# Altium integrated library National Semiconductor MiscPower.IntLib: 1552 symbols (part 12 of 43)
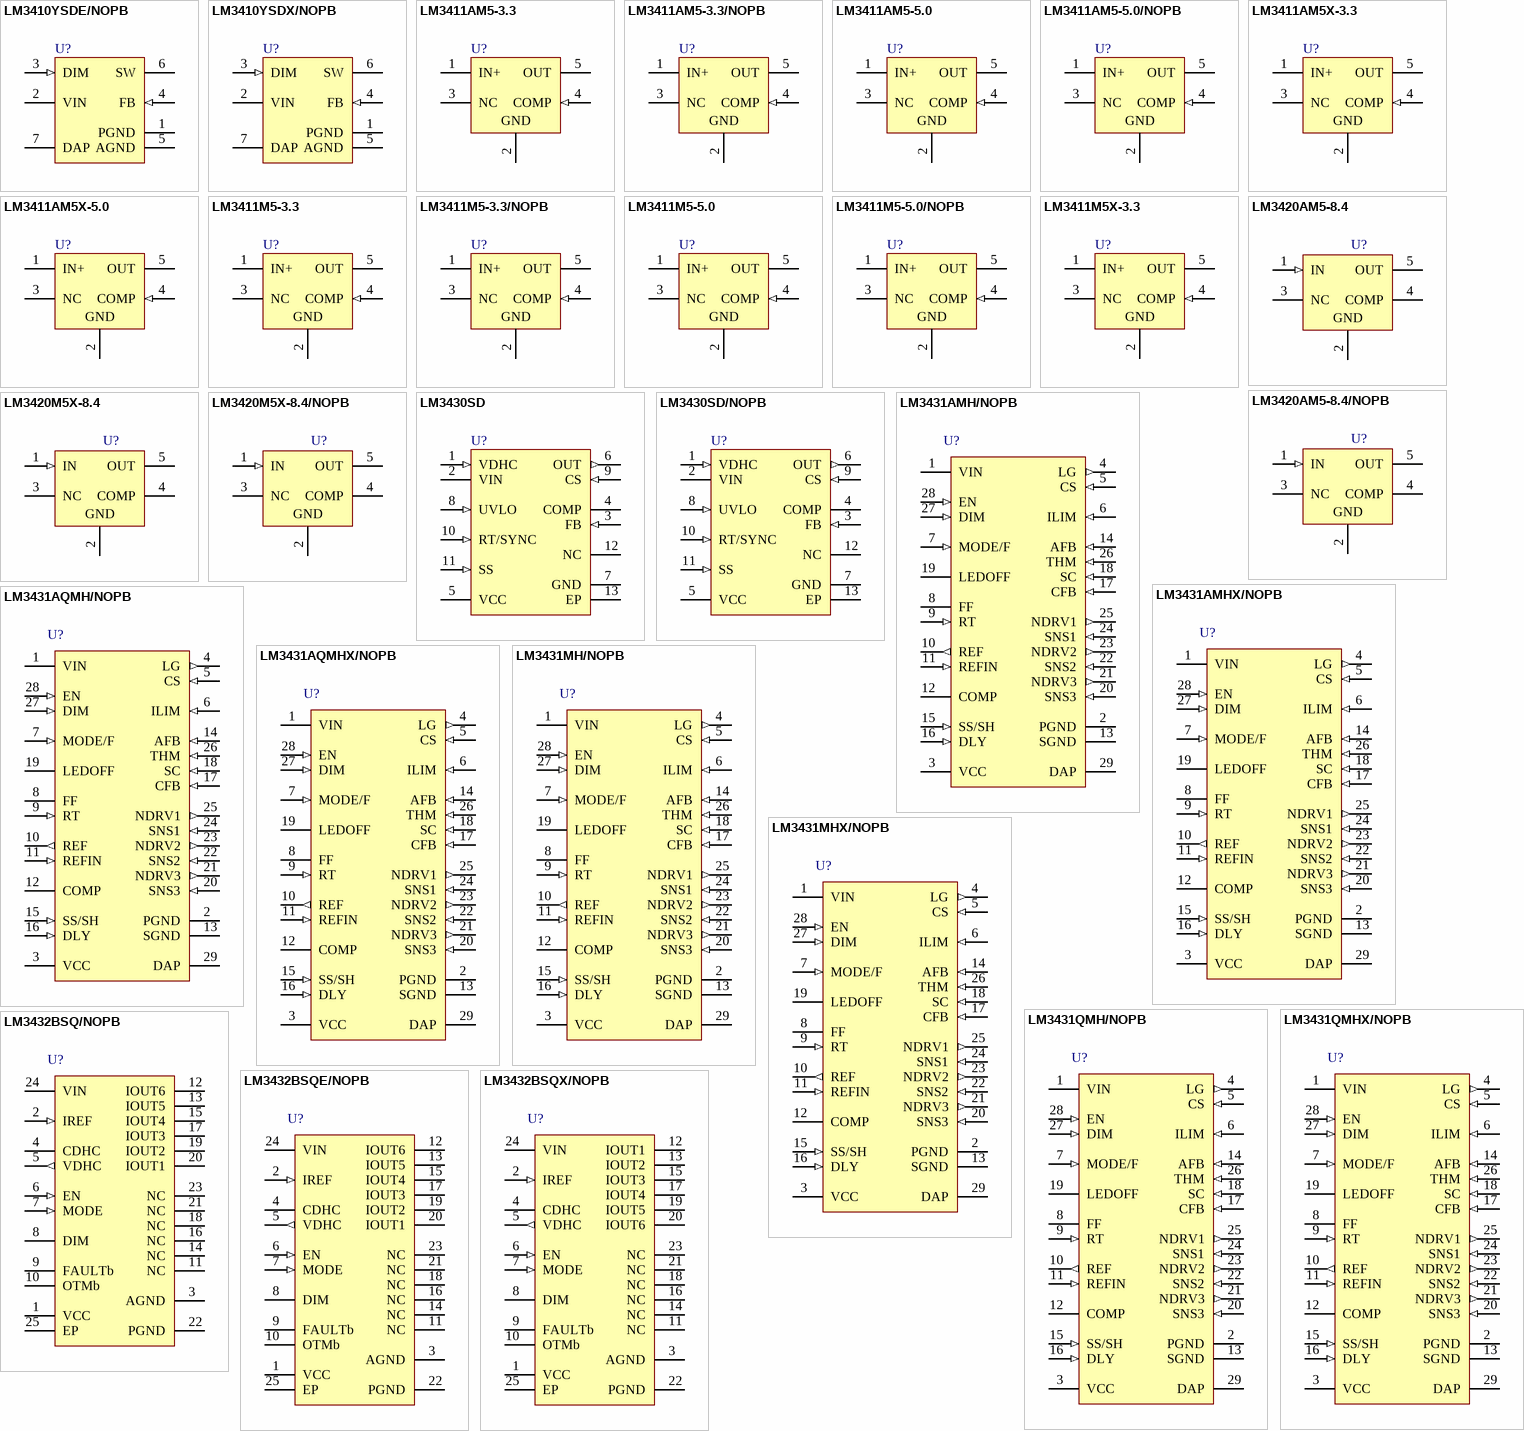
[diagram p68: symbols LM3410YSDE/NOPB to LM3432BSQX/NOPB]

## LM3420AM5-8.4/NOPB
designator U?
Lithium-Ion Battery Charge Controller, 5-pin SOT-23, Pb-Free; PartNumber: LM3420AM5-8.4/NOPB; Manufacturer: National Semiconductor; PackageTopMarking: D03A*XTT; PowerWise: N; CompType: MiscPower; High-Reliability: Y; DatasheetVersion: Jul-2000; PackageVersion: revD, Aug-2008; PackageReference: MF05A; PackageDescription: Molded SOT-23, .115 x .063 x .040 in Body, 5 Lead, .0375 in Pitch; RoHS: Y; PinCount: 5; ComponentLink1Description: Manufacturer URL; ComponentLink1URL: http://www.national.com/; ComponentLink2Description: LM3420 Datasheet; ComponentLink2URL: http://www.national.com/ds/LM/LM3420.pdf; ComponentLink3Description: LM3420 Web Page; ComponentLink3URL: http://www.national.com/pf/LM/LM3420.html; ComponentLink4Description: MF05A Package Page; ComponentLink4URL: http://www.national.com/packaging/folders/mf05a.html
footprint MF05A_N (SOT23, 5-Leads, Body 2.9x1.6mm, Pitch 0.95mm, Lead Span 2.8mm, IPC Medium Density)
footprint MF05A_L (SOT23, 5-Leads, Body 2.9x1.6mm, Pitch 0.95mm, Lead Span 2.8mm, IPC High Density)
footprint MF05A_M (SOT23, 5-Leads, Body 2.9x1.6mm, Pitch 0.95mm, Lead Span 2.8mm, IPC Low Density)
pins: 1 IN (in), 2 GND (power), 3 NC, 4 COMP, 5 OUT (oe)

## LM3420M5X-8.4
designator U?
Lithium-Ion Battery Charge Controller, 5-pin SOT-23; PartNumber: LM3420M5X-8.4; Manufacturer: National Semiconductor; PackageTopMarking: D03B*XTT; PowerWise: N; CompType: MiscPower; High-Reliability: Y; DatasheetVersion: Jul-2000; PackageVersion: revD, Aug-2008; PackageReference: MF05A; PackageDescription: Molded SOT-23, .115 x .063 x .040 in Body, 5 Lead, .0375 in Pitch; RoHS: N; PinCount: 5; ComponentLink1Description: Manufacturer URL; ComponentLink1URL: http://www.national.com/; ComponentLink2Description: LM3420 Datasheet; ComponentLink2URL: http://www.national.com/ds/LM/LM3420.pdf; ComponentLink3Description: LM3420 Web Page; ComponentLink3URL: http://www.national.com/pf/LM/LM3420.html; ComponentLink4Description: MF05A Package Page; ComponentLink4URL: http://www.national.com/packaging/folders/mf05a.html
footprint MF05A_N (SOT23, 5-Leads, Body 2.9x1.6mm, Pitch 0.95mm, Lead Span 2.8mm, IPC Medium Density)
footprint MF05A_L (SOT23, 5-Leads, Body 2.9x1.6mm, Pitch 0.95mm, Lead Span 2.8mm, IPC High Density)
footprint MF05A_M (SOT23, 5-Leads, Body 2.9x1.6mm, Pitch 0.95mm, Lead Span 2.8mm, IPC Low Density)
pins: 1 IN (in), 2 GND (power), 3 NC, 4 COMP, 5 OUT (oe)

## LM3420M5X-8.4/NOPB
designator U?
Lithium-Ion Battery Charge Controller, 5-pin SOT-23, Pb-Free; PartNumber: LM3420M5X-8.4/NOPB; Manufacturer: National Semiconductor; PackageTopMarking: D03B*XTT; PowerWise: N; CompType: MiscPower; High-Reliability: Y; DatasheetVersion: Jul-2000; PackageVersion: revD, Aug-2008; PackageReference: MF05A; PackageDescription: Molded SOT-23, .115 x .063 x .040 in Body, 5 Lead, .0375 in Pitch; RoHS: Y; PinCount: 5; ComponentLink1Description: Manufacturer URL; ComponentLink1URL: http://www.national.com/; ComponentLink2Description: LM3420 Datasheet; ComponentLink2URL: http://www.national.com/ds/LM/LM3420.pdf; ComponentLink3Description: LM3420 Web Page; ComponentLink3URL: http://www.national.com/pf/LM/LM3420.html; ComponentLink4Description: MF05A Package Page; ComponentLink4URL: http://www.national.com/packaging/folders/mf05a.html
footprint MF05A_N (SOT23, 5-Leads, Body 2.9x1.6mm, Pitch 0.95mm, Lead Span 2.8mm, IPC Medium Density)
footprint MF05A_L (SOT23, 5-Leads, Body 2.9x1.6mm, Pitch 0.95mm, Lead Span 2.8mm, IPC High Density)
footprint MF05A_M (SOT23, 5-Leads, Body 2.9x1.6mm, Pitch 0.95mm, Lead Span 2.8mm, IPC Low Density)
pins: 1 IN (in), 2 GND (power), 3 NC, 4 COMP, 5 OUT (oe)

## LM3430SD
designator U?
Boost Controller for LED Backlighting, 12-pin LLP; PartNumber: LM3430SD; Manufacturer: National Semiconductor; PackageTopMarking: ZXYTT*L3430; PowerWise: Y; CompType: MiscPower; DatasheetVersion: Jan-2007; PackageVersion: revB, Jul-2008; PackageReference: SDF12A; PackageDescription: LLP, Plastic, Dual, 3 x 3 x 0.8mm Body, 12 Lead, 0.4mm Pitch, No Pullback; RoHS: N; PinCount: 12; High-Reliability: Y; ComponentLink1Description: Manufacturer URL; ComponentLink1URL: http://www.national.com/; ComponentLink2Description: LM3430 Datasheet; ComponentLink2URL: http://www.national.com/ds/LM/LM3430.pdf; ComponentLink3Description: LM3430 Web Page; ComponentLink3URL: http://www.national.com/pf/LM/LM3430.html; ComponentLink4Description: SDF12A Package Page; ComponentLink4URL: http://www.national.com/packaging/folders/sdf12a.html
footprint SDF12A (SON, 12-Leads, Body 3x3mm, Pitch 0.4mm, NSC Recommended)
pins: 1 VDHC (in), 2 VIN (power), 3 FB (in), 4 COMP, 5 VCC (power), 6 OUT (out), 7 GND (power), 8 UVLO (in), 9 CS (in), 10 RT/SYNC (in), 11 SS (in), 12 NC, 13 EP (power)

## LM3430SD/NOPB
designator U?
Boost Controller for LED Backlighting, 12-pin LLP, Pb-Free; PartNumber: LM3430SD/NOPB; Manufacturer: National Semiconductor; PackageTopMarking: ZXYTT*L3430; PowerWise: Y; CompType: MiscPower; DatasheetVersion: Jan-2007; PackageVersion: revB, Jul-2008; PackageReference: SDF12A; PackageDescription: LLP, Plastic, Dual, 3 x 3 x 0.8mm Body, 12 Lead, 0.4mm Pitch, No Pullback; RoHS: Y; PinCount: 12; High-Reliability: Y; ComponentLink1Description: Manufacturer URL; ComponentLink1URL: http://www.national.com/; ComponentLink2Description: LM3430 Datasheet; ComponentLink2URL: http://www.national.com/ds/LM/LM3430.pdf; ComponentLink3Description: LM3430 Web Page; ComponentLink3URL: http://www.national.com/pf/LM/LM3430.html; ComponentLink4Description: SDF12A Package Page; ComponentLink4URL: http://www.national.com/packaging/folders/sdf12a.html
footprint SDF12A (SON, 12-Leads, Body 3x3mm, Pitch 0.4mm, NSC Recommended)
pins: 1 VDHC (in), 2 VIN (power), 3 FB (in), 4 COMP, 5 VCC (power), 6 OUT (out), 7 GND (power), 8 UVLO (in), 9 CS (in), 10 RT/SYNC (in), 11 SS (in), 12 NC, 13 EP (power)

## LM3431AMH/NOPB
designator U?
3-Channel Constant Current LED Driver with Integrated Boost Controller, 28-pin TSSOP-EP, Pb-Free; PartNumber: LM3431AMH/NOPB; Manufacturer: National Semiconductor; PackageTopMarking: NSUZXYTTE#*LM3431AMH; PowerWise: Y; CompType: MiscPower; DatasheetVersion: Mar-2009; PackageVersion: revD, Oct-2003; PackageReference: MXA28A; PackageDescription: Molded TSSOP, Jedec, 9.7 x 4.4 x 0.9mm Body, 28 Lead, 0.65mm Pitch, Exposed Pad; RoHS: Y; PinCount: 28; High-Reliability: Y; Code_JEDEC: MO-153-AET; ComponentLink1Description: Manufacturer URL; ComponentLink1URL: http://www.national.com/; ComponentLink2Description: LM3431 Datasheet; ComponentLink2URL: http://www.national.com/ds/LM/LM3431.pdf; ComponentLink3Description: LM3431 Web Page; ComponentLink3URL: http://www.national.com/pf/LM/LM3431.html; ComponentLink4Description: MXA28A Package Page; ComponentLink4URL: http://www.national.com/packaging/folders/mxa28a.html
footprint MXA28A_N (TSOP, 28-Leads, Body 9.7x4.4mm, Pitch 0.65mm, Thermal Pad, IPC Medium Density)
footprint MXA28A_L (TSOP, 28-Leads, Body 9.7x4.4mm, Pitch 0.65mm, Thermal Pad, IPC High Density)
footprint MXA28A_M (TSOP, 28-Leads, Body 9.7x4.4mm, Pitch 0.65mm, Thermal Pad, IPC Low Density)
pins: 1 VIN (power), 2 PGND (power), 3 VCC (power), 4 LG (out), 5 CS (in), 6 ILIM (in), 7 MODE/F (in), 8 FF, 9 RT (in), 10 REF (out), 11 REFIN (in), 12 COMP, 13 SGND (power), 14 AFB (in), 15 SS/SH (in), 16 DLY (in), 17 CFB (in), 18 SC (in), 19 LEDOFF, 20 SNS3 (in), 21 NDRV3 (out), 22 SNS2 (in), 23 NDRV2 (out), 24 SNS1 (in), 25 NDRV1 (out), 26 THM (in), 27 DIM (in), 28 EN (in), 29 DAP (power)

## LM3431AMHX/NOPB
designator U?
3-Channel Constant Current LED Driver with Integrated Boost Controller, 28-pin TSSOP-EP, Pb-Free; PartNumber: LM3431AMHX/NOPB; Manufacturer: National Semiconductor; PackageTopMarking: NSUZXYTTE#*LM3431AMH; PowerWise: Y; CompType: MiscPower; DatasheetVersion: Jan-2008; PackageVersion: revD, Oct-2003; PackageReference: MXA28A; PackageDescription: Molded TSSOP, Jedec, 9.7 x 4.4 x 0.9mm Body, 28 Lead, 0.65mm Pitch, Exposed Pad; RoHS: Y; PinCount: 28; High-Reliability: Y; Code_JEDEC: MO-153-AET; ComponentLink1Description: Manufacturer URL; ComponentLink1URL: http://www.national.com/; ComponentLink2Description: LM3431 Datasheet; ComponentLink2URL: http://www.national.com/ds/LM/LM3431.pdf; ComponentLink3Description: LM3431 Web Page; ComponentLink3URL: http://www.national.com/pf/LM/LM3431.html; ComponentLink4Description: MXA28A Package Page; ComponentLink4URL: http://www.national.com/packaging/folders/mxa28a.html
footprint MXA28A_N (TSOP, 28-Leads, Body 9.7x4.4mm, Pitch 0.65mm, Thermal Pad, IPC Medium Density)
footprint MXA28A_L (TSOP, 28-Leads, Body 9.7x4.4mm, Pitch 0.65mm, Thermal Pad, IPC High Density)
footprint MXA28A_M (TSOP, 28-Leads, Body 9.7x4.4mm, Pitch 0.65mm, Thermal Pad, IPC Low Density)
pins: 1 VIN (power), 2 PGND (power), 3 VCC (power), 4 LG (out), 5 CS (in), 6 ILIM (in), 7 MODE/F (in), 8 FF, 9 RT (in), 10 REF (out), 11 REFIN (in), 12 COMP, 13 SGND (power), 14 AFB (in), 15 SS/SH (in), 16 DLY (in), 17 CFB (in), 18 SC (in), 19 LEDOFF, 20 SNS3 (in), 21 NDRV3 (out), 22 SNS2 (in), 23 NDRV2 (out), 24 SNS1 (in), 25 NDRV1 (out), 26 THM (in), 27 DIM (in), 28 EN (in), 29 DAP (power)

## LM3431AQMH/NOPB
designator U?
3-Channel Constant Current LED Driver with Integrated Boost Controller, 28-pin TSSOP-EP, Pb-Free; PartNumber: LM3431AQMH/NOPB; Manufacturer: National Semiconductor; PackageTopMarking: NSUZXYTTE#*LM3431*AQMH; PowerWise: N; CompType: MiscPower; High-Reliability: Y; DatasheetVersion: Mar-2009; PackageVersion: revD, Oct-2003; PackageReference: MXA28A; PackageDescription: Molded TSSOP, Jedec, 9.7 x 4.4 x 0.9mm Body, 28 Lead, 0.65mm Pitch, Exposed Pad; RoHS: Y; PinCount: 28; Code_JEDEC: MO-153-AET; ComponentLink1Description: Manufacturer URL; ComponentLink1URL: http://www.national.com/; ComponentLink2Description: LM3431 Datasheet; ComponentLink2URL: http://www.national.com/ds/LM/LM3431.pdf; ComponentLink3Description: LM3431 Web Page; ComponentLink3URL: http://www.national.com/pf/LM/LM3431.html; ComponentLink4Description: MXA28A Package Page; ComponentLink4URL: http://www.national.com/packaging/folders/mxa28a.html
footprint MXA28A_N (TSOP, 28-Leads, Body 9.7x4.4mm, Pitch 0.65mm, Thermal Pad, IPC Medium Density)
footprint MXA28A_L (TSOP, 28-Leads, Body 9.7x4.4mm, Pitch 0.65mm, Thermal Pad, IPC High Density)
footprint MXA28A_M (TSOP, 28-Leads, Body 9.7x4.4mm, Pitch 0.65mm, Thermal Pad, IPC Low Density)
pins: 1 VIN (power), 2 PGND (power), 3 VCC (power), 4 LG (out), 5 CS (in), 6 ILIM (in), 7 MODE/F (in), 8 FF, 9 RT (in), 10 REF (out), 11 REFIN (in), 12 COMP, 13 SGND (power), 14 AFB (in), 15 SS/SH (in), 16 DLY (in), 17 CFB (in), 18 SC (in), 19 LEDOFF, 20 SNS3 (in), 21 NDRV3 (out), 22 SNS2 (in), 23 NDRV2 (out), 24 SNS1 (in), 25 NDRV1 (out), 26 THM (in), 27 DIM (in), 28 EN (in), 29 DAP (power)

## LM3431AQMHX/NOPB
designator U?
3-Channel Constant Current LED Driver with Integrated Boost Controller, 28-pin TSSOP-EP, Pb-Free; PartNumber: LM3431AQMHX/NOPB; Manufacturer: National Semiconductor; PackageTopMarking: NSUZXYTTE#*LM3431*AQMH; PowerWise: N; CompType: MiscPower; High-Reliability: Y; DatasheetVersion: Mar-2009; PackageVersion: revD, Oct-2003; PackageReference: MXA28A; PackageDescription: Molded TSSOP, Jedec, 9.7 x 4.4 x 0.9mm Body, 28 Lead, 0.65mm Pitch, Exposed Pad; RoHS: Y; PinCount: 28; Code_JEDEC: MO-153-AET; ComponentLink1Description: Manufacturer URL; ComponentLink1URL: http://www.national.com/; ComponentLink2Description: LM3431 Datasheet; ComponentLink2URL: http://www.national.com/ds/LM/LM3431.pdf; ComponentLink3Description: LM3431 Web Page; ComponentLink3URL: http://www.national.com/pf/LM/LM3431.html; ComponentLink4Description: MXA28A Package Page; ComponentLink4URL: http://www.national.com/packaging/folders/mxa28a.html
footprint MXA28A_N (TSOP, 28-Leads, Body 9.7x4.4mm, Pitch 0.65mm, Thermal Pad, IPC Medium Density)
footprint MXA28A_L (TSOP, 28-Leads, Body 9.7x4.4mm, Pitch 0.65mm, Thermal Pad, IPC High Density)
footprint MXA28A_M (TSOP, 28-Leads, Body 9.7x4.4mm, Pitch 0.65mm, Thermal Pad, IPC Low Density)
pins: 1 VIN (power), 2 PGND (power), 3 VCC (power), 4 LG (out), 5 CS (in), 6 ILIM (in), 7 MODE/F (in), 8 FF, 9 RT (in), 10 REF (out), 11 REFIN (in), 12 COMP, 13 SGND (power), 14 AFB (in), 15 SS/SH (in), 16 DLY (in), 17 CFB (in), 18 SC (in), 19 LEDOFF, 20 SNS3 (in), 21 NDRV3 (out), 22 SNS2 (in), 23 NDRV2 (out), 24 SNS1 (in), 25 NDRV1 (out), 26 THM (in), 27 DIM (in), 28 EN (in), 29 DAP (power)

## LM3431MH/NOPB
designator U?
3-Channel Constant Current LED Driver with Integrated Boost Controller, 28-pin TSSOP-EP, Pb-Free; PartNumber: LM3431MH/NOPB; Manufacturer: National Semiconductor; PackageTopMarking: NSUZXYTTE#*LM3431MH; PowerWise: Y; CompType: MiscPower; DatasheetVersion: Jan-2008; PackageVersion: revD, Oct-2003; PackageReference: MXA28A; PackageDescription: Molded TSSOP, Jedec, 9.7 x 4.4 x 0.9mm Body, 28 Lead, 0.65mm Pitch, Exposed Pad; RoHS: Y; PinCount: 28; High-Reliability: Y; Code_JEDEC: MO-153-AET; ComponentLink1Description: Manufacturer URL; ComponentLink1URL: http://www.national.com/; ComponentLink2Description: LM3431 Datasheet; ComponentLink2URL: http://www.national.com/ds/LM/LM3431.pdf; ComponentLink3Description: LM3431 Web Page; ComponentLink3URL: http://www.national.com/pf/LM/LM3431.html; ComponentLink4Description: MXA28A Package Page; ComponentLink4URL: http://www.national.com/packaging/folders/mxa28a.html
footprint MXA28A_N (TSOP, 28-Leads, Body 9.7x4.4mm, Pitch 0.65mm, Thermal Pad, IPC Medium Density)
footprint MXA28A_L (TSOP, 28-Leads, Body 9.7x4.4mm, Pitch 0.65mm, Thermal Pad, IPC High Density)
footprint MXA28A_M (TSOP, 28-Leads, Body 9.7x4.4mm, Pitch 0.65mm, Thermal Pad, IPC Low Density)
pins: 1 VIN (power), 2 PGND (power), 3 VCC (power), 4 LG (out), 5 CS (in), 6 ILIM (in), 7 MODE/F (in), 8 FF, 9 RT (in), 10 REF (out), 11 REFIN (in), 12 COMP, 13 SGND (power), 14 AFB (in), 15 SS/SH (in), 16 DLY (in), 17 CFB (in), 18 SC (in), 19 LEDOFF, 20 SNS3 (in), 21 NDRV3 (out), 22 SNS2 (in), 23 NDRV2 (out), 24 SNS1 (in), 25 NDRV1 (out), 26 THM (in), 27 DIM (in), 28 EN (in), 29 DAP (power)

## LM3431MHX/NOPB
designator U?
3-Channel Constant Current LED Driver with Integrated Boost Controller, 28-pin TSSOP-EP, Pb-Free; PartNumber: LM3431MHX/NOPB; Manufacturer: National Semiconductor; PackageTopMarking: NSUZXYTTE#*LM3431MH; PowerWise: Y; CompType: MiscPower; DatasheetVersion: Jan-2008; PackageVersion: revD, Oct-2003; PackageReference: MXA28A; PackageDescription: Molded TSSOP, Jedec, 9.7 x 4.4 x 0.9mm Body, 28 Lead, 0.65mm Pitch, Exposed Pad; RoHS: Y; PinCount: 28; High-Reliability: Y; Code_JEDEC: MO-153-AET; ComponentLink1Description: Manufacturer URL; ComponentLink1URL: http://www.national.com/; ComponentLink2Description: LM3431 Datasheet; ComponentLink2URL: http://www.national.com/ds/LM/LM3431.pdf; ComponentLink3Description: LM3431 Web Page; ComponentLink3URL: http://www.national.com/pf/LM/LM3431.html; ComponentLink4Description: MXA28A Package Page; ComponentLink4URL: http://www.national.com/packaging/folders/mxa28a.html
footprint MXA28A_N (TSOP, 28-Leads, Body 9.7x4.4mm, Pitch 0.65mm, Thermal Pad, IPC Medium Density)
footprint MXA28A_L (TSOP, 28-Leads, Body 9.7x4.4mm, Pitch 0.65mm, Thermal Pad, IPC High Density)
footprint MXA28A_M (TSOP, 28-Leads, Body 9.7x4.4mm, Pitch 0.65mm, Thermal Pad, IPC Low Density)
pins: 1 VIN (power), 2 PGND (power), 3 VCC (power), 4 LG (out), 5 CS (in), 6 ILIM (in), 7 MODE/F (in), 8 FF, 9 RT (in), 10 REF (out), 11 REFIN (in), 12 COMP, 13 SGND (power), 14 AFB (in), 15 SS/SH (in), 16 DLY (in), 17 CFB (in), 18 SC (in), 19 LEDOFF, 20 SNS3 (in), 21 NDRV3 (out), 22 SNS2 (in), 23 NDRV2 (out), 24 SNS1 (in), 25 NDRV1 (out), 26 THM (in), 27 DIM (in), 28 EN (in), 29 DAP (power)

## LM3431QMH/NOPB
designator U?
3-Channel Constant Current LED Driver with Integrated Boost Controller, 28-pin TSSOP-EP, Pb-Free; PartNumber: LM3431QMH/NOPB; Manufacturer: National Semiconductor; PackageTopMarking: NSUZXYTTE#*LM3431*QMH; PowerWise: N; CompType: MiscPower; High-Reliability: Y; DatasheetVersion: Mar-2009; PackageVersion: revD, Oct-2003; PackageReference: MXA28A; PackageDescription: Molded TSSOP, Jedec, 9.7 x 4.4 x 0.9mm Body, 28 Lead, 0.65mm Pitch, Exposed Pad; RoHS: Y; PinCount: 28; Code_JEDEC: MO-153-AET; ComponentLink1Description: Manufacturer URL; ComponentLink1URL: http://www.national.com/; ComponentLink2Description: LM3431 Datasheet; ComponentLink2URL: http://www.national.com/ds/LM/LM3431.pdf; ComponentLink3Description: LM3431 Web Page; ComponentLink3URL: http://www.national.com/pf/LM/LM3431.html; ComponentLink4Description: MXA28A Package Page; ComponentLink4URL: http://www.national.com/packaging/folders/mxa28a.html
footprint MXA28A_N (TSOP, 28-Leads, Body 9.7x4.4mm, Pitch 0.65mm, Thermal Pad, IPC Medium Density)
footprint MXA28A_L (TSOP, 28-Leads, Body 9.7x4.4mm, Pitch 0.65mm, Thermal Pad, IPC High Density)
footprint MXA28A_M (TSOP, 28-Leads, Body 9.7x4.4mm, Pitch 0.65mm, Thermal Pad, IPC Low Density)
pins: 1 VIN (power), 2 PGND (power), 3 VCC (power), 4 LG (out), 5 CS (in), 6 ILIM (in), 7 MODE/F (in), 8 FF, 9 RT (in), 10 REF (out), 11 REFIN (in), 12 COMP, 13 SGND (power), 14 AFB (in), 15 SS/SH (in), 16 DLY (in), 17 CFB (in), 18 SC (in), 19 LEDOFF, 20 SNS3 (in), 21 NDRV3 (out), 22 SNS2 (in), 23 NDRV2 (out), 24 SNS1 (in), 25 NDRV1 (out), 26 THM (in), 27 DIM (in), 28 EN (in), 29 DAP (power)

## LM3431QMHX/NOPB
designator U?
3-Channel Constant Current LED Driver with Integrated Boost Controller, 28-pin TSSOP-EP, Pb-Free; PartNumber: LM3431QMHX/NOPB; Manufacturer: National Semiconductor; PackageTopMarking: NSUZXYTTE#*LM3431*QMH; PowerWise: N; CompType: MiscPower; High-Reliability: Y; DatasheetVersion: Mar-2009; PackageVersion: revD, Oct-2003; PackageReference: MXA28A; PackageDescription: Molded TSSOP, Jedec, 9.7 x 4.4 x 0.9mm Body, 28 Lead, 0.65mm Pitch, Exposed Pad; RoHS: Y; PinCount: 28; Code_JEDEC: MO-153-AET; ComponentLink1Description: Manufacturer URL; ComponentLink1URL: http://www.national.com/; ComponentLink2Description: LM3431 Datasheet; ComponentLink2URL: http://www.national.com/ds/LM/LM3431.pdf; ComponentLink3Description: LM3431 Web Page; ComponentLink3URL: http://www.national.com/pf/LM/LM3431.html; ComponentLink4Description: MXA28A Package Page; ComponentLink4URL: http://www.national.com/packaging/folders/mxa28a.html
footprint MXA28A_N (TSOP, 28-Leads, Body 9.7x4.4mm, Pitch 0.65mm, Thermal Pad, IPC Medium Density)
footprint MXA28A_L (TSOP, 28-Leads, Body 9.7x4.4mm, Pitch 0.65mm, Thermal Pad, IPC High Density)
footprint MXA28A_M (TSOP, 28-Leads, Body 9.7x4.4mm, Pitch 0.65mm, Thermal Pad, IPC Low Density)
pins: 1 VIN (power), 2 PGND (power), 3 VCC (power), 4 LG (out), 5 CS (in), 6 ILIM (in), 7 MODE/F (in), 8 FF, 9 RT (in), 10 REF (out), 11 REFIN (in), 12 COMP, 13 SGND (power), 14 AFB (in), 15 SS/SH (in), 16 DLY (in), 17 CFB (in), 18 SC (in), 19 LEDOFF, 20 SNS3 (in), 21 NDRV3 (out), 22 SNS2 (in), 23 NDRV2 (out), 24 SNS1 (in), 25 NDRV1 (out), 26 THM (in), 27 DIM (in), 28 EN (in), 29 DAP (power)

## LM3432BSQ/NOPB
designator U?
6-Channel Current Regulator for LED Backlight Application, 24-pin LLP, Pb-Free; PartNumber: LM3432BSQ/NOPB; Manufacturer: National Semiconductor; PackageTopMarking: NS*UZXYTT*3432BSQ; PowerWise: N; CompType: MiscPower; High-Reliability: Y; DatasheetVersion: May-2008; PackageVersion: revA, Oct-2003; PackageReference: SQA24B; PackageDescription: LLP, Plastic, Quad, 5 x 4 x 0.8mm Body, 24 Lead, 0.5mm Pitch, No Pullback; RoHS: Y; PinCount: 24; Code_JEDEC: MO-220-WGHD-1; ComponentLink1Description: Manufacturer URL; ComponentLink1URL: http://www.national.com/; ComponentLink2Description: LM3432B Datasheet; ComponentLink2URL: http://www.national.com/ds/LM/LM3432B.pdf; ComponentLink3Description: LM3432B Web Page; ComponentLink3URL: http://www.national.com/pf/LM/LM3432B.html; ComponentLink4Description: SQA24B Package Page; ComponentLink4URL: http://www.national.com/packaging/folders/sqa24b.html
footprint SQA24B (QFN, 24-Leads, Body 5x4mm, Pitch 0.5mm, NSC Recommended)
pins: 1 VCC (power), 2 IREF (in), 3 AGND (power), 4 CDHC, 5 VDHC (out), 6 EN (in), 7 MODE (in), 8 DIM, 9 FAULTb (oc), 10 OTMb (oc), 11 NC, 12 IOUT6 (oc), 13 IOUT5 (oc), 14 NC, 15 IOUT4 (oc), 16 NC, 17 IOUT3 (oc), 18 NC, 19 IOUT2 (oc), 20 IOUT1 (oc), 21 NC, 22 PGND (power), 23 NC, 24 VIN (power), 25 EP (power)

## LM3432BSQE/NOPB
designator U?
6-Channel Current Regulator for LED Backlight Application, 24-pin LLP, Pb-Free; PartNumber: LM3432BSQE/NOPB; Manufacturer: National Semiconductor; PackageTopMarking: NS*UZXYTT*3432BSQ; PowerWise: N; CompType: MiscPower; High-Reliability: Y; DatasheetVersion: May-2008; PackageVersion: revA, Oct-2003; PackageReference: SQA24B; PackageDescription: LLP, Plastic, Quad, 5 x 4 x 0.8mm Body, 24 Lead, 0.5mm Pitch, No Pullback; RoHS: Y; PinCount: 24; Code_JEDEC: MO-220-WGHD-1; ComponentLink1Description: Manufacturer URL; ComponentLink1URL: http://www.national.com/; ComponentLink2Description: LM3432B Datasheet; ComponentLink2URL: http://www.national.com/ds/LM/LM3432.pdf; ComponentLink3Description: LM3432B Web Page; ComponentLink3URL: http://www.national.com/pf/LM/LM3432B.html; ComponentLink4Description: SQA24B Package Page; ComponentLink4URL: http://www.national.com/packaging/folders/sqa24b.html
footprint SQA24B (QFN, 24-Leads, Body 5x4mm, Pitch 0.5mm, NSC Recommended)
pins: 1 VCC (power), 2 IREF (in), 3 AGND (power), 4 CDHC, 5 VDHC (out), 6 EN (in), 7 MODE (in), 8 DIM, 9 FAULTb (oc), 10 OTMb (oc), 11 NC, 12 IOUT6 (oc), 13 IOUT5 (oc), 14 NC, 15 IOUT4 (oc), 16 NC, 17 IOUT3 (oc), 18 NC, 19 IOUT2 (oc), 20 IOUT1 (oc), 21 NC, 22 PGND (power), 23 NC, 24 VIN (power), 25 EP (power)

## LM3432BSQX/NOPB
designator U?
6-Channel Current Regulator for LED Backlight Application, 24-pin LLP, Pb-Free; PartNumber: LM3432BSQX/NOPB; Manufacturer: National Semiconductor; PackageTopMarking: NS*UZXYTT*3432BSQ; PowerWise: N; CompType: MiscPower; High-Reliability: Y; DatasheetVersion: May-2008; PackageVersion: revA, Oct-2003; PackageReference: SQA24B; PackageDescription: LLP, Plastic, Quad, 5 x 4 x 0.8mm Body, 24 Lead, 0.5mm Pitch, No Pullback; RoHS: Y; PinCount: 24; Code_JEDEC: MO-220-WGHD-1; ComponentLink1Description: Manufacturer URL; ComponentLink1URL: http://www.national.com/; ComponentLink2Description: LM3432B Datasheet; ComponentLink2URL: http://www.national.com/ds/LM/LM3432B.pdf; ComponentLink3Description: LM3432B Web Page; ComponentLink3URL: http://www.national.com/pf/LM/LM3432B.html; ComponentLink4Description: SQA24B Package Page; ComponentLink4URL: http://www.national.com/packaging/folders/sqa24b.html
footprint SQA24B (QFN, 24-Leads, Body 5x4mm, Pitch 0.5mm, NSC Recommended)
pins: 1 VCC (power), 2 IREF (in), 3 AGND (power), 4 CDHC, 5 VDHC (out), 6 EN (in), 7 MODE (in), 8 DIM, 9 FAULTb (oc), 10 OTMb (oc), 11 NC, 12 IOUT1 (oc), 13 IOUT2 (oc), 14 NC, 15 IOUT3 (oc), 16 NC, 17 IOUT4 (oc), 18 NC, 19 IOUT5 (oc), 20 IOUT6 (oc), 21 NC, 22 PGND (power), 23 NC, 24 VIN (power), 25 EP (power)

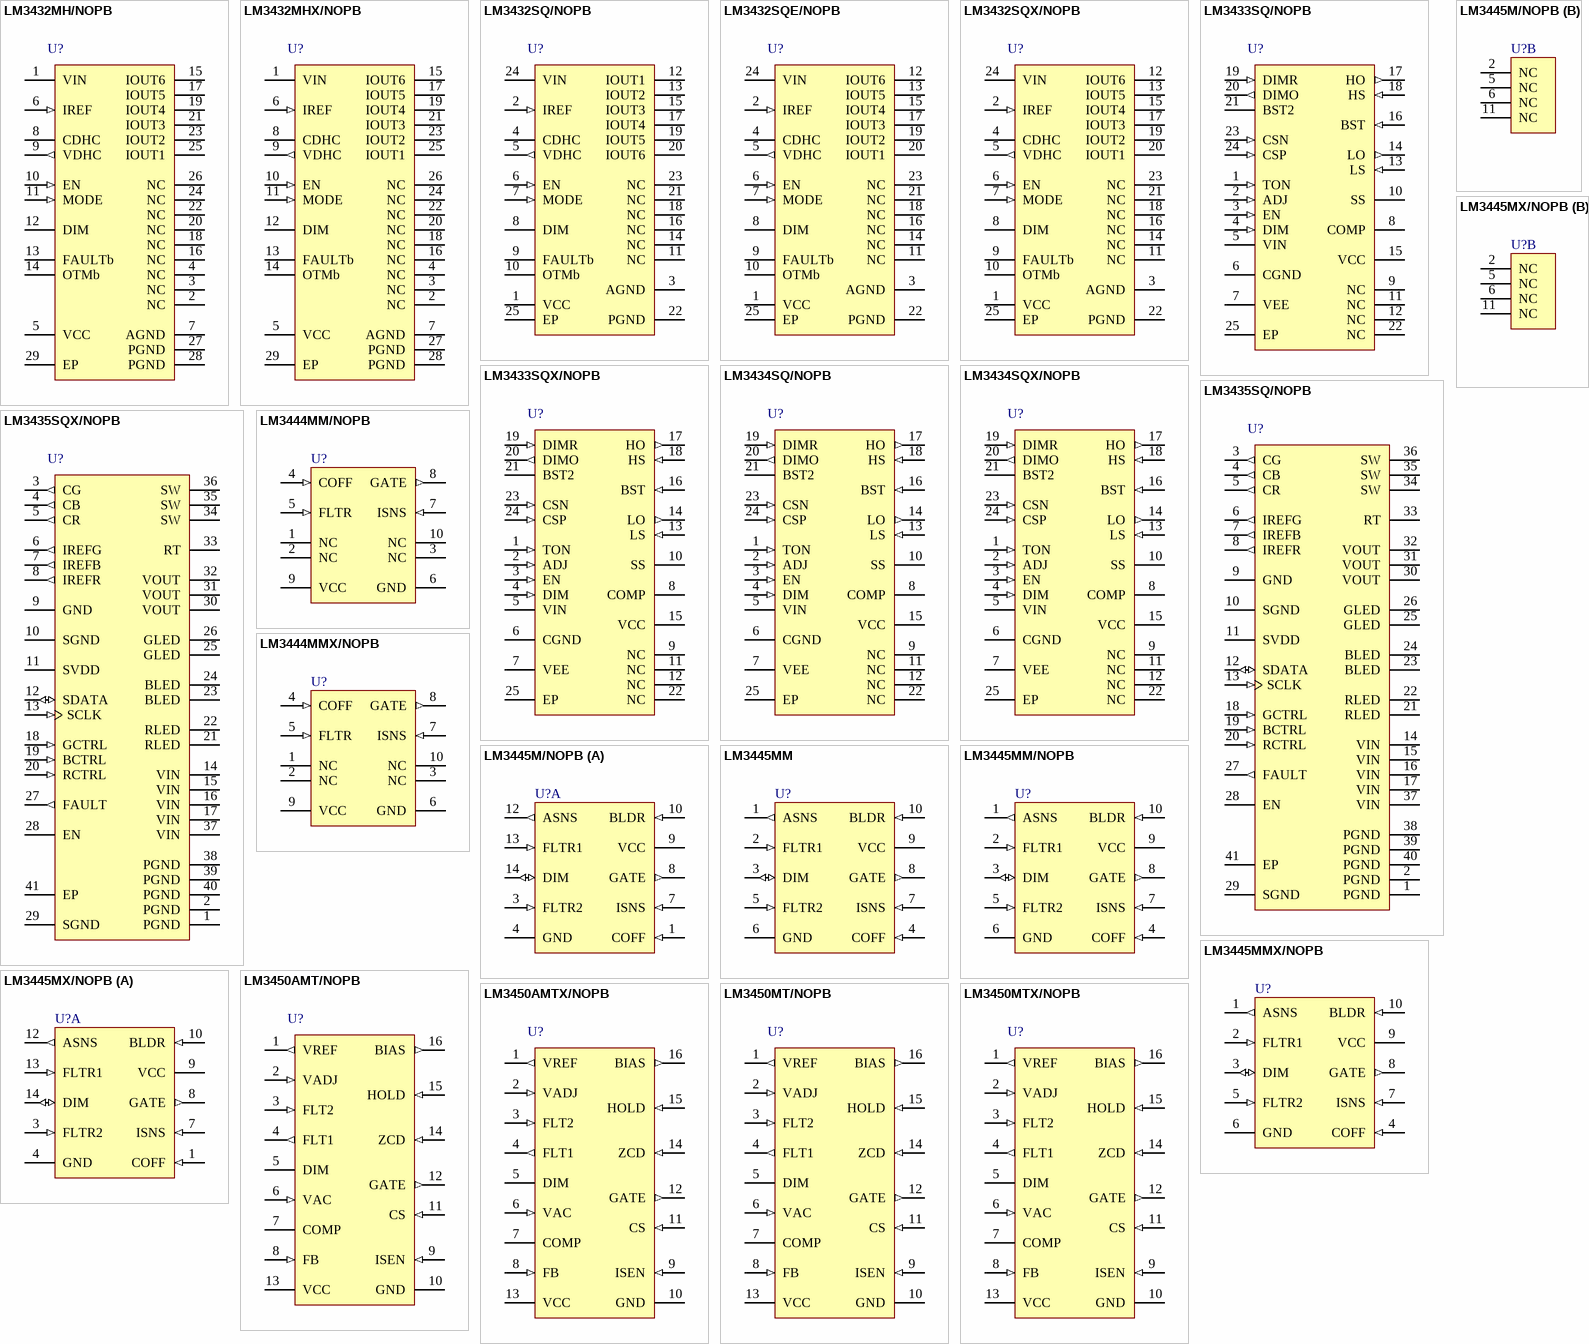
[diagram p13: symbols LM3432MH/NOPB to LM3450MTX/NOPB]

## LM3432MH/NOPB
designator U?
6-Channel Current Regulator for LED Backlight Application, 28-pin TSSOP-EP, Pb-Free; PartNumber: LM3432MH/NOPB; Manufacturer: National Semiconductor; PackageTopMarking: NSUZXYTTE#*LM3432*MH; PowerWise: N; CompType: MiscPower; High-Reliability: Y; DatasheetVersion: May-2008; PackageVersion: revD, Oct-2003; PackageReference: MXA28A; PackageDescription: Molded TSSOP, Jedec, 9.7 x 4.4 x 0.9mm Body, 28 Lead, 0.65mm Pitch, Exposed Pad; RoHS: Y; PinCount: 28; Code_JEDEC: MO-153-AET; ComponentLink1Description: Manufacturer URL; ComponentLink1URL: http://www.national.com/; ComponentLink2Description: LM3432 Datasheet; ComponentLink2URL: http://www.national.com/ds/LM/LM3432.pdf; ComponentLink3Description: LM3432 Web Page; ComponentLink3URL: http://www.national.com/pf/LM/LM3432.html; ComponentLink4Description: MXA28A Package Page; ComponentLink4URL: http://www.national.com/packaging/folders/mxa28a.html
footprint MXA28A_N (TSOP, 28-Leads, Body 9.7x4.4mm, Pitch 0.65mm, Thermal Pad, IPC Medium Density)
footprint MXA28A_L (TSOP, 28-Leads, Body 9.7x4.4mm, Pitch 0.65mm, Thermal Pad, IPC High Density)
footprint MXA28A_M (TSOP, 28-Leads, Body 9.7x4.4mm, Pitch 0.65mm, Thermal Pad, IPC Low Density)
pins: 1 VIN (power), 2 NC, 3 NC, 4 NC, 5 VCC (power), 6 IREF (in), 7 AGND (power), 8 CDHC, 9 VDHC (out), 10 EN (in), 11 MODE (in), 12 DIM, 13 FAULTb (oc), 14 OTMb (oc), 15 IOUT6 (oc), 16 NC, 17 IOUT5 (oc), 18 NC, 19 IOUT4 (oc), 20 NC, 21 IOUT3 (oc), 22 NC, 23 IOUT2 (oc), 24 NC, 25 IOUT1 (oc), 26 NC, 27 PGND (power), 28 PGND (power), 29 EP (power)

## LM3432MHX/NOPB
designator U?
6-Channel Current Regulator for LED Backlight Application, 28-pin TSSOP-EP, Pb-Free; PartNumber: LM3432MHX/NOPB; Manufacturer: National Semiconductor; PackageTopMarking: NSUZXYTTE#*LM3432*MH; PowerWise: N; CompType: MiscPower; High-Reliability: Y; DatasheetVersion: May-2008; PackageVersion: revD, Oct-2003; PackageReference: MXA28A; PackageDescription: Molded TSSOP, Jedec, 9.7 x 4.4 x 0.9mm Body, 28 Lead, 0.65mm Pitch, Exposed Pad; RoHS: Y; PinCount: 28; Code_JEDEC: MO-153-AET; ComponentLink1Description: Manufacturer URL; ComponentLink1URL: http://www.national.com/; ComponentLink2Description: LM3432 Datasheet; ComponentLink2URL: http://www.national.com/ds/LM/LM3432.pdf; ComponentLink3Description: LM3432 Web Page; ComponentLink3URL: http://www.national.com/pf/LM/LM3432.html; ComponentLink4Description: MXA28A Package Page; ComponentLink4URL: http://www.national.com/packaging/folders/mxa28a.html
footprint MXA28A_N (TSOP, 28-Leads, Body 9.7x4.4mm, Pitch 0.65mm, Thermal Pad, IPC Medium Density)
footprint MXA28A_L (TSOP, 28-Leads, Body 9.7x4.4mm, Pitch 0.65mm, Thermal Pad, IPC High Density)
footprint MXA28A_M (TSOP, 28-Leads, Body 9.7x4.4mm, Pitch 0.65mm, Thermal Pad, IPC Low Density)
pins: 1 VIN (power), 2 NC, 3 NC, 4 NC, 5 VCC (power), 6 IREF (in), 7 AGND (power), 8 CDHC, 9 VDHC (out), 10 EN (in), 11 MODE (in), 12 DIM, 13 FAULTb (oc), 14 OTMb (oc), 15 IOUT6 (oc), 16 NC, 17 IOUT5 (oc), 18 NC, 19 IOUT4 (oc), 20 NC, 21 IOUT3 (oc), 22 NC, 23 IOUT2 (oc), 24 NC, 25 IOUT1 (oc), 26 NC, 27 PGND (power), 28 PGND (power), 29 EP (power)

## LM3432SQ/NOPB
designator U?
6-Channel Current Regulator for LED Backlight Application, 24-pin LLP, Pb-Free; PartNumber: LM3432SQ/NOPB; Manufacturer: National Semiconductor; PackageTopMarking: NS*UZXYTT*L3432SQ; PowerWise: N; CompType: MiscPower; High-Reliability: Y; DatasheetVersion: May-2008; PackageVersion: revA, Oct-2003; PackageReference: SQA24B; PackageDescription: LLP, Plastic, Quad, 5 x 4 x 0.8mm Body, 24 Lead, 0.5mm Pitch, No Pullback; RoHS: Y; PinCount: 24; Code_JEDEC: MO-220-WGHD-1; ComponentLink1Description: Manufacturer URL; ComponentLink1URL: http://www.national.com/; ComponentLink2Description: LM3432 Datasheet; ComponentLink2URL: http://www.national.com/ds/LM/LM3432.pdf; ComponentLink3Description: LM3432 Web Page; ComponentLink3URL: http://www.national.com/pf/LM/LM3432.html; ComponentLink4Description: SQA24B Package Page; ComponentLink4URL: http://www.national.com/packaging/folders/sqa24b.html
footprint SQA24B (QFN, 24-Leads, Body 5x4mm, Pitch 0.5mm, NSC Recommended)
pins: 1 VCC (power), 2 IREF (in), 3 AGND (power), 4 CDHC, 5 VDHC (out), 6 EN (in), 7 MODE (in), 8 DIM, 9 FAULTb (oc), 10 OTMb (oc), 11 NC, 12 IOUT1 (oc), 13 IOUT2 (oc), 14 NC, 15 IOUT3 (oc), 16 NC, 17 IOUT4 (oc), 18 NC, 19 IOUT5 (oc), 20 IOUT6 (oc), 21 NC, 22 PGND (power), 23 NC, 24 VIN (power), 25 EP (power)

## LM3432SQE/NOPB
designator U?
6-Channel Current Regulator for LED Backlight Application, 24-pin LLP, Pb-Free; PartNumber: LM3432SQE/NOPB; Manufacturer: National Semiconductor; PackageTopMarking: NS*UZXYTT*L3432SQ; PowerWise: N; CompType: MiscPower; High-Reliability: Y; DatasheetVersion: May-2008; PackageVersion: revA, Oct-2003; PackageReference: SQA24B; PackageDescription: LLP, Plastic, Quad, 5 x 4 x 0.8mm Body, 24 Lead, 0.5mm Pitch, No Pullback; RoHS: Y; PinCount: 24; Code_JEDEC: MO-220-WGHD-1; ComponentLink1Description: Manufacturer URL; ComponentLink1URL: http://www.national.com/; ComponentLink2Description: LM3432 Datasheet; ComponentLink2URL: http://www.national.com/ds/LM/LM3432.pdf; ComponentLink3Description: LM3432 Web Page; ComponentLink3URL: http://www.national.com/pf/LM/LM3432.html; ComponentLink4Description: SQA24B Package Page; ComponentLink4URL: http://www.national.com/packaging/folders/sqa24b.html
footprint SQA24B (QFN, 24-Leads, Body 5x4mm, Pitch 0.5mm, NSC Recommended)
pins: 1 VCC (power), 2 IREF (in), 3 AGND (power), 4 CDHC, 5 VDHC (out), 6 EN (in), 7 MODE (in), 8 DIM, 9 FAULTb (oc), 10 OTMb (oc), 11 NC, 12 IOUT6 (oc), 13 IOUT5 (oc), 14 NC, 15 IOUT4 (oc), 16 NC, 17 IOUT3 (oc), 18 NC, 19 IOUT2 (oc), 20 IOUT1 (oc), 21 NC, 22 PGND (power), 23 NC, 24 VIN (power), 25 EP (power)

## LM3432SQX/NOPB
designator U?
6-Channel Current Regulator for LED Backlight Application, 24-pin LLP, Pb-Free; PartNumber: LM3432SQX/NOPB; Manufacturer: National Semiconductor; PackageTopMarking: NS*UZXYTT*L3432SQ; PowerWise: N; CompType: MiscPower; High-Reliability: Y; DatasheetVersion: May-2008; PackageVersion: revA, Oct-2003; PackageReference: SQA24B; PackageDescription: LLP, Plastic, Quad, 5 x 4 x 0.8mm Body, 24 Lead, 0.5mm Pitch, No Pullback; RoHS: Y; PinCount: 24; Code_JEDEC: MO-220-WGHD-1; ComponentLink1Description: Manufacturer URL; ComponentLink1URL: http://www.national.com/; ComponentLink2Description: LM3432 Datasheet; ComponentLink2URL: http://www.national.com/ds/LM/LM3432.pdf; ComponentLink3Description: LM3432 Web Page; ComponentLink3URL: http://www.national.com/pf/LM/LM3432.html; ComponentLink4Description: SQA24B Package Page; ComponentLink4URL: http://www.national.com/packaging/folders/sqa24b.html
footprint SQA24B (QFN, 24-Leads, Body 5x4mm, Pitch 0.5mm, NSC Recommended)
pins: 1 VCC (power), 2 IREF (in), 3 AGND (power), 4 CDHC, 5 VDHC (out), 6 EN (in), 7 MODE (in), 8 DIM, 9 FAULTb (oc), 10 OTMb (oc), 11 NC, 12 IOUT6 (oc), 13 IOUT5 (oc), 14 NC, 15 IOUT4 (oc), 16 NC, 17 IOUT3 (oc), 18 NC, 19 IOUT2 (oc), 20 IOUT1 (oc), 21 NC, 22 PGND (power), 23 NC, 24 VIN (power), 25 EP (power)

## LM3433SQ/NOPB
designator U?
Common Anode Capable High Brightness LED Driver with High Frequency Dimming, 24-pin LLP, Pb-Free; PartNumber: LM3433SQ/NOPB; Manufacturer: National Semiconductor; PackageTopMarking: NS*UZXYTT*L3433SQ; PowerWise: Y; CompType: MiscPower; DatasheetVersion: Mar-2008; PackageVersion: revB, Aug-2003; PackageReference: SQA24A; PackageDescription: LLP, Plastic, Quad, 4 x 4 x 0.8mm Body, 24 Lead, 0.5mm Pitch, No Pullback; RoHS: Y; PinCount: 24; High-Reliability: Y; Code_JEDEC: MO-220-WGGD-6; ComponentLink1Description: Manufacturer URL; ComponentLink1URL: http://www.national.com/; ComponentLink2Description: LM3433 Datasheet; ComponentLink2URL: http://www.national.com/ds/LM/LM3433.pdf; ComponentLink3Description: LM3433 Web Page; ComponentLink3URL: http://www.national.com/pf/LM/LM3433.html; ComponentLink4Description: SQA24A Package Page; ComponentLink4URL: http://www.national.com/packaging/folders/sqa24a.html
footprint SQA24A (QFN, 24-Leads, Body 4x4mm, Pitch 0.5mm, Thermal Pad 2.7x2.7mm, NSC Recommended)
pins: 1 TON (in), 2 ADJ (in), 3 EN (in), 4 DIM (in), 5 VIN (power), 6 CGND (power), 7 VEE (power), 8 COMP, 9 NC, 10 SS, 11 NC, 12 NC, 13 LS (in), 14 LO (out), 15 VCC (power), 16 BST (in), 17 HO (out), 18 HS (in), 19 DIMR (in), 20 DIMO (out), 21 BST2, 22 NC, 23 CSN (in), 24 CSP (in), 25 EP (power)

## LM3433SQX/NOPB
designator U?
Common Anode Capable High Brightness LED Driver with High Frequency Dimming, 24-pin LLP, Pb-Free; PartNumber: LM3433SQX/NOPB; Manufacturer: National Semiconductor; PackageTopMarking: NS*UZXYTT*L3433SQ; PowerWise: Y; CompType: MiscPower; DatasheetVersion: Mar-2008; PackageVersion: revB, Aug-2003; PackageReference: SQA24A; PackageDescription: LLP, Plastic, Quad, 4 x 4 x 0.8mm Body, 24 Lead, 0.5mm Pitch, No Pullback; RoHS: Y; PinCount: 24; High-Reliability: Y; Code_JEDEC: MO-220-WGGD-6; ComponentLink1Description: Manufacturer URL; ComponentLink1URL: http://www.national.com/; ComponentLink2Description: LM3433 Datasheet; ComponentLink2URL: http://www.national.com/ds/LM/LM3433.pdf; ComponentLink3Description: LM3433 Web Page; ComponentLink3URL: http://www.national.com/pf/LM/LM3433.html; ComponentLink4Description: SQA24A Package Page; ComponentLink4URL: http://www.national.com/packaging/folders/sqa24a.html
footprint SQA24A (QFN, 24-Leads, Body 4x4mm, Pitch 0.5mm, Thermal Pad 2.7x2.7mm, NSC Recommended)
pins: 1 TON (in), 2 ADJ (in), 3 EN (in), 4 DIM (in), 5 VIN (power), 6 CGND (power), 7 VEE (power), 8 COMP, 9 NC, 10 SS, 11 NC, 12 NC, 13 LS (in), 14 LO (out), 15 VCC (power), 16 BST (in), 17 HO (out), 18 HS (in), 19 DIMR (in), 20 DIMO (out), 21 BST2, 22 NC, 23 CSN (in), 24 CSP (in), 25 EP (power)

## LM3434SQ/NOPB
designator U?
Common Anode Capable High Brightness LED Driver with High Frequency Dimming, 24 pin LLP; PartNumber: LM3434SQ/NOPB; Manufacturer: National Semiconductor; PackageTopMarking: NS*UZXYTT*L3434; PowerWise: Y; CompType: MiscPower; DatasheetVersion: Aug-2010; PackageVersion: revB, Aug-2003; PackageReference: SQA24A; PackageDescription: LLP, Plastic, Quad, 4 x 4 x 0.8mm Body, 24 Lead, 0.5mm Pitch, No Pullback; RoHS: Y; PinCount: 24; High-Reliability: Y; Code_JEDEC: MO-220-WGGD-6; ComponentLink1Description: Manufacturer URL; ComponentLink1URL: http://www.national.com/; ComponentLink2Description: LM3434 Datasheet; ComponentLink2URL: http://www.national.com/ds/LM/LM3434.pdf; ComponentLink3Description: LM3434 Web Page; ComponentLink3URL: http://www.national.com/pf/LM/LM3434.html; ComponentLink4Description: SQA24A Package Page; ComponentLink4URL: http://www.national.com/packaging/folders/sqa24a.html
footprint SQA24A (QFN, 24-Leads, Body 4x4mm, Pitch 0.5mm, Thermal Pad 2.7x2.7mm, NSC Recommended)
pins: 1 TON (in), 2 ADJ (in), 3 EN (in), 4 DIM (in), 5 VIN (power), 6 CGND (power), 7 VEE (power), 8 COMP, 9 NC, 10 SS, 11 NC, 12 NC, 13 LS (in), 14 LO (out), 15 VCC (power), 16 BST (in), 17 HO (out), 18 HS (in), 19 DIMR (in), 20 DIMO (out), 21 BST2, 22 NC, 23 CSN (in), 24 CSP (in), 25 EP (power)

## LM3434SQX/NOPB
designator U?
Common Anode Capable High Brightness LED Driver with High Frequency Dimming, 24 pin LLP; PartNumber: LM3434SQX/NOPB; Manufacturer: National Semiconductor; PackageTopMarking: NS*UZXYTT*L3434; PowerWise: Y; CompType: MiscPower; DatasheetVersion: Aug-2010; PackageVersion: revB, Aug-2003; PackageReference: SQA24A; PackageDescription: LLP, Plastic, Quad, 4 x 4 x 0.8mm Body, 24 Lead, 0.5mm Pitch, No Pullback; RoHS: Y; PinCount: 24; High-Reliability: Y; Code_JEDEC: MO-220-WGGD-6; ComponentLink1Description: Manufacturer URL; ComponentLink1URL: http://www.national.com/; ComponentLink2Description: LM3434 Datasheet; ComponentLink2URL: http://www.national.com/ds/LM/LM3434.pdf; ComponentLink3Description: LM3434 Web Page; ComponentLink3URL: http://www.national.com/pf/LM/LM3434.html; ComponentLink4Description: SQA24A Package Page; ComponentLink4URL: http://www.national.com/packaging/folders/sqa24a.html
footprint SQA24A (QFN, 24-Leads, Body 4x4mm, Pitch 0.5mm, Thermal Pad 2.7x2.7mm, NSC Recommended)
pins: 1 TON (in), 2 ADJ (in), 3 EN (in), 4 DIM (in), 5 VIN (power), 6 CGND (power), 7 VEE (power), 8 COMP, 9 NC, 10 SS, 11 NC, 12 NC, 13 LS (in), 14 LO (out), 15 VCC (power), 16 BST (in), 17 HO (out), 18 HS (in), 19 DIMR (in), 20 DIMO (out), 21 BST2, 22 NC, 23 CSN (in), 24 CSP (in), 25 EP (power)

## LM3435SQ/NOPB
designator U?
Compact Sequential Mode RGB LED Driver with I2C Control Interface, 40-pin LLP, Pb-Free; PartNumber: LM3435SQ/NOPB; Manufacturer: National Semiconductor; PackageTopMarking: NS*>U>Z>2>X>E*L3435SQ; PowerWise: Y; CompType: MiscPower; DatasheetVersion: Oct-2011; PackageVersion: revB, Jul-2004; PackageReference: SQF40A; PackageDescription: LLP, Quad, 5 x 5 x 0.8mm Body, 40 Lead, 0.4mm Pitch, 3.6 x 3.6mm Exposed Pad; RoHS: Y; PinCount: 40; High-Reliability: Y; ComponentLink1Description: Manufacturer URL; ComponentLink1URL: http://www.national.com/; ComponentLink2Description: LM3435 Datasheet; ComponentLink2URL: http://www.national.com/ds/LM/LM3435.pdf; ComponentLink3Description: LM3435 Web Page; ComponentLink3URL: http://www.national.com/pf/LM/LM3435.html; ComponentLink4Description: SQF40A Package Page; ComponentLink4URL: http://www.national.com/packaging/folders/sqf40a.html
footprint SQF40A (QFN, 41-Leads, Body 5x5mm, Pitch 0.4mm, Thermal Pad 3.6x3.6mm, NSC Recommended)
pins: 1 PGND (power), 2 PGND (power), 3 CG (out), 4 CB (out), 5 CR (out), 6 IREFG (out), 7 IREFB (out), 8 IREFR (out), 9 GND (power), 10 SGND (power), 11 SVDD (power), 12 SDATA (io), 13 SCLK (in), 14 VIN (power), 15 VIN (power), 16 VIN (power), 17 VIN (power), 18 GCTRL (in), 19 BCTRL (in), 20 RCTRL (in), 21 RLED (oc), 22 RLED (oc), 23 BLED (oc), 24 BLED (oc), 25 GLED (oc), 26 GLED (oc), 27 FAULT (out), 28 EN, 29 SGND (power), 30 VOUT (hiz), 31 VOUT (hiz), 32 VOUT (hiz), 33 RT (hiz), 34 SW (power), 35 SW (power), 36 SW (power), 37 VIN (power), 38 PGND (power), 39 PGND (power), 40 PGND (power), 41 EP (power)

## LM3435SQX/NOPB
designator U?
Compact Sequential Mode RGB LED Driver with I2C Control Interface, 40-pin LLP, Pb-Free; PartNumber: LM3435SQX/NOPB; Manufacturer: National Semiconductor; PackageTopMarking: NS*>U>Z>2>X>E*L3435SQ; PowerWise: Y; CompType: MiscPower; DatasheetVersion: Oct-2011; PackageVersion: revB, Jul-2004; PackageReference: SQF40A; PackageDescription: LLP, Quad, 5 x 5 x 0.8mm Body, 40 Lead, 0.4mm Pitch, 3.6 x 3.6mm Exposed Pad; RoHS: Y; PinCount: 40; High-Reliability: Y; ComponentLink1Description: Manufacturer URL; ComponentLink1URL: http://www.national.com/; ComponentLink2Description: LM3435 Datasheet; ComponentLink2URL: http://www.national.com/ds/LM/LM3435.pdf; ComponentLink3Description: LM3435 Web Page; ComponentLink3URL: http://www.national.com/pf/LM/LM3435.html; ComponentLink4Description: SQF40A Package Page; ComponentLink4URL: http://www.national.com/packaging/folders/sqf40a.html
footprint SQF40A (QFN, 41-Leads, Body 5x5mm, Pitch 0.4mm, Thermal Pad 3.6x3.6mm, NSC Recommended)
pins: 1 PGND (power), 2 PGND (power), 3 CG (out), 4 CB (out), 5 CR (out), 6 IREFG (out), 7 IREFB (out), 8 IREFR (out), 9 GND (power), 10 SGND (power), 11 SVDD (power), 12 SDATA (io), 13 SCLK (in), 14 VIN (power), 15 VIN (power), 16 VIN (power), 17 VIN (power), 18 GCTRL (in), 19 BCTRL (in), 20 RCTRL (in), 21 RLED (oc), 22 RLED (oc), 23 BLED (oc), 24 BLED (oc), 25 GLED (oc), 26 GLED (oc), 27 FAULT (out), 28 EN, 29 SGND (power), 30 VOUT (hiz), 31 VOUT (hiz), 32 VOUT (hiz), 33 RT (hiz), 34 SW (power), 35 SW (power), 36 SW (power), 37 VIN (power), 38 PGND (power), 39 PGND (power), 40 PGND (power), 41 EP (power)

## LM3444MM/NOPB
designator U?
AC-DC Offline LED Driver, 10-pin Mini SOIC, 1000 Reel; PartNumber: LM3444MM/NOPB; Manufacturer: National Semiconductor; PackageTopMarking: ZXTT*SZTB; PowerWise: Y; CompType: MiscPower; DatasheetVersion: Jan-2011; PackageVersion: revB, Jul-2003; PackageReference: MUB10A; PackageDescription: Mini-SO, Molded, .118 x .118 x .034in Body, 10 Lead, .0197in Pitch; RoHS: Y; PinCount: 10; High-Reliability: Y; Code_JEDEC: MO-187-BA; ComponentLink1Description: Manufacturer URL; ComponentLink1URL: http://www.national.com/; ComponentLink2Description: LM3444 Datasheet; ComponentLink2URL: http://www.national.com/ds/LM/LM3444.pdf; ComponentLink3Description: LM3444 Web Page; ComponentLink3URL: http://www.national.com/pf/LM/LM3444.html; ComponentLink4Description: MUB10A Package Page; ComponentLink4URL: http://www.national.com/packaging/folders/mub10a.html
footprint MUB10A_N (TSSOP, 10-Leads, Body 3x3mm, Pitch 0.5mm, IPC Medium Density)
footprint MUB10A_L (TSSOP, 10-Leads, Body 3x3mm, Pitch 0.5mm, IPC High Density)
footprint MUB10A_M (TSSOP, 10-Leads, Body 3x3mm, Pitch 0.5mm, IPC Low Density)
pins: 1 NC, 2 NC, 3 NC, 4 COFF (in), 5 FLTR (in), 6 GND (power), 7 ISNS (in), 8 GATE (out), 9 VCC (power), 10 NC

## LM3444MMX/NOPB
designator U?
AC-DC Offline LED Driver, 10-pin Mini SOIC, 3500 Reel; PartNumber: LM3444MMX/NOPB; Manufacturer: National Semiconductor; PackageTopMarking: ZXTT*SZTB; PowerWise: Y; CompType: MiscPower; DatasheetVersion: Jan-2011; PackageVersion: revB, Jul-2003; PackageReference: MUB10A; PackageDescription: Mini-SO, Molded, .118 x .118 x .034in Body, 10 Lead, .0197in Pitch; RoHS: Y; PinCount: 10; High-Reliability: Y; Code_JEDEC: MO-187-BA; ComponentLink1Description: Manufacturer URL; ComponentLink1URL: http://www.national.com/; ComponentLink2Description: LM3444 Datasheet; ComponentLink2URL: http://www.national.com/ds/LM/LM3444.pdf; ComponentLink3Description: LM3444 Web Page; ComponentLink3URL: http://www.national.com/pf/LM/LM3444.html; ComponentLink4Description: MUB10A Package Page; ComponentLink4URL: http://www.national.com/packaging/folders/mub10a.html
footprint MUB10A_N (TSSOP, 10-Leads, Body 3x3mm, Pitch 0.5mm, IPC Medium Density)
footprint MUB10A_L (TSSOP, 10-Leads, Body 3x3mm, Pitch 0.5mm, IPC High Density)
footprint MUB10A_M (TSSOP, 10-Leads, Body 3x3mm, Pitch 0.5mm, IPC Low Density)
pins: 1 NC, 2 NC, 3 NC, 4 COFF (in), 5 FLTR (in), 6 GND (power), 7 ISNS (in), 8 GATE (out), 9 VCC (power), 10 NC

## LM3445M/NOPB
designator U?
Triac Dimmable Offline LED Driver, 14-pin Narrow SOIC, Pb-Free; PartNumber: LM3445M/NOPB; Manufacturer: National Semiconductor; PackageTopMarking: NSUZXYTTE#*LM3445M; PowerWise: N; CompType: MiscPower; High-Reliability: Y; DatasheetVersion: Feb-2010; PackageVersion: revJ, Jan-1996; PackageReference: M14A; PackageDescription: Molded Package S.O., .150in Wide, 14 Lead; RoHS: Y; PinCount: 14; Code_JEDEC: MS-012AB; Code_IPC: SOIC127P600-14; ComponentLink1Description: Manufacturer URL; ComponentLink1URL: http://www.national.com/; ComponentLink2Description: LM3445 Datasheet; ComponentLink2URL: http://www.national.com/ds/LM/LM3445.pdf; ComponentLink3Description: LM3445 Web Page; ComponentLink3URL: http://www.national.com/pf/LM/LM3445.html; ComponentLink4Description: M14A Package Page; ComponentLink4URL: http://www.national.com/packaging/folders/m14a.html
footprint M14A_N (SOIC, 14-Leads, Body 8.6x3.9mm, Pitch 1.27mm, IPC Medium Density)
footprint M14A_L (SOIC, 14-Leads, Body 8.6x3.9mm, Pitch 1.27mm, IPC High Density)
footprint M14A_M (SOIC, 14-Leads, Body 8.6x3.9mm, Pitch 1.27mm, IPC Low Density)
part A pins: 1 COFF (in), 3 FLTR2 (in), 4 GND (power), 7 ISNS (in), 8 GATE (out), 9 VCC (power), 10 BLDR (in), 12 ASNS (out), 13 FLTR1 (in), 14 DIM (io)
part B pins: 2 NC, 5 NC, 6 NC, 11 NC

## LM3445MM
designator U?
Triac Dimmable Offline LED Driver, PowerWise, 10-pin MSOP; PartNumber: LM3445MM; Manufacturer: National Semiconductor; PackageTopMarking: ZXTT*SULB; PowerWise: Y; CompType: MiscPower; DatasheetVersion: Feb-2010; PackageVersion: revB, Jul-2003; PackageReference: MUB10A; PackageDescription: Mini-SO, Molded, .118 x .118 x .034in Body, 10 Lead, .0197in Pitch; RoHS: Y; PinCount: 10; High-Reliability: Y; Code_JEDEC: MO-187-BA; ComponentLink1Description: Manufacturer URL; ComponentLink1URL: http://www.national.com/; ComponentLink2Description: LM3445 Datasheet; ComponentLink2URL: http://www.national.com/ds/LM/LM3445.pdf; ComponentLink3Description: LM3445 Web Page; ComponentLink3URL: http://www.national.com/pf/LM/LM3445.html; ComponentLink4Description: MUB10A Package Page; ComponentLink4URL: http://www.national.com/packaging/folders/mub10a.html
footprint MUB10A_N (TSSOP, 10-Leads, Body 3x3mm, Pitch 0.5mm, IPC Medium Density)
footprint MUB10A_L (TSSOP, 10-Leads, Body 3x3mm, Pitch 0.5mm, IPC High Density)
footprint MUB10A_M (TSSOP, 10-Leads, Body 3x3mm, Pitch 0.5mm, IPC Low Density)
pins: 1 ASNS (out), 2 FLTR1 (in), 3 DIM (io), 4 COFF (in), 5 FLTR2 (in), 6 GND (power), 7 ISNS (in), 8 GATE (out), 9 VCC (power), 10 BLDR (in)

## LM3445MM/NOPB
designator U?
Triac Dimmable Offline LED Driver, 10-pin MSOP, Pb-Free; PartNumber: LM3445MM/NOPB; Manufacturer: National Semiconductor; PackageTopMarking: ZXTT*SULB; PowerWise: Y; CompType: MiscPower; DatasheetVersion: Feb-2010; PackageVersion: revB, Jul-2003; PackageReference: MUB10A; PackageDescription: Mini-SO, Molded, .118 x .118 x .034in Body, 10 Lead, .0197in Pitch; RoHS: Y; PinCount: 10; High-Reliability: Y; Code_JEDEC: MO-187-BA; ComponentLink1Description: Manufacturer URL; ComponentLink1URL: http://www.national.com/; ComponentLink2Description: LM3445 Datasheet; ComponentLink2URL: http://www.national.com/ds/LM/LM3445.pdf; ComponentLink3Description: LM3445 Web Page; ComponentLink3URL: http://www.national.com/pf/LM/LM3445.html; ComponentLink4Description: MUB10A Package Page; ComponentLink4URL: http://www.national.com/packaging/folders/mub10a.html
footprint MUB10A_N (TSSOP, 10-Leads, Body 3x3mm, Pitch 0.5mm, IPC Medium Density)
footprint MUB10A_L (TSSOP, 10-Leads, Body 3x3mm, Pitch 0.5mm, IPC High Density)
footprint MUB10A_M (TSSOP, 10-Leads, Body 3x3mm, Pitch 0.5mm, IPC Low Density)
pins: 1 ASNS (out), 2 FLTR1 (in), 3 DIM (io), 4 COFF (in), 5 FLTR2 (in), 6 GND (power), 7 ISNS (in), 8 GATE (out), 9 VCC (power), 10 BLDR (in)

## LM3445MMX/NOPB
designator U?
Triac Dimmable Offline LED Driver, 10-pin MSOP, Pb-Free; PartNumber: LM3445MMX/NOPB; Manufacturer: National Semiconductor; PackageTopMarking: ZXTT*SULB; PowerWise: Y; CompType: MiscPower; DatasheetVersion: Feb-2010; PackageVersion: revB, Jul-2003; PackageReference: MUB10A; PackageDescription: Mini-SO, Molded, .118 x .118 x .034in Body, 10 Lead, .0197in Pitch; RoHS: Y; PinCount: 10; High-Reliability: Y; Code_JEDEC: MO-187-BA; ComponentLink1Description: Manufacturer URL; ComponentLink1URL: http://www.national.com/; ComponentLink2Description: LM3445 Datasheet; ComponentLink2URL: http://www.national.com/ds/LM/LM3445.pdf; ComponentLink3Description: LM3445 Web Page; ComponentLink3URL: http://www.national.com/pf/LM/LM3445.html; ComponentLink4Description: MUB10A Package Page; ComponentLink4URL: http://www.national.com/packaging/folders/mub10a.html
footprint MUB10A_N (TSSOP, 10-Leads, Body 3x3mm, Pitch 0.5mm, IPC Medium Density)
footprint MUB10A_L (TSSOP, 10-Leads, Body 3x3mm, Pitch 0.5mm, IPC High Density)
footprint MUB10A_M (TSSOP, 10-Leads, Body 3x3mm, Pitch 0.5mm, IPC Low Density)
pins: 1 ASNS (out), 2 FLTR1 (in), 3 DIM (io), 4 COFF (in), 5 FLTR2 (in), 6 GND (power), 7 ISNS (in), 8 GATE (out), 9 VCC (power), 10 BLDR (in)

## LM3445MX/NOPB
designator U?
Triac Dimmable Offline LED Driver, 14-pin Narrow SOIC, Pb-Free; PartNumber: LM3445MX/NOPB; Manufacturer: National Semiconductor; PackageTopMarking: NSUZXYTTE#*LM3445M; PowerWise: N; CompType: MiscPower; High-Reliability: Y; DatasheetVersion: Feb-2010; PackageVersion: revJ, Jan-1996; PackageReference: M14A; PackageDescription: Molded Package S.O., .150in Wide, 14 Lead; RoHS: Y; PinCount: 14; Code_JEDEC: MS-012AB; Code_IPC: SOIC127P600-14; ComponentLink1Description: Manufacturer URL; ComponentLink1URL: http://www.national.com/; ComponentLink2Description: LM3445 Datasheet; ComponentLink2URL: http://www.national.com/ds/LM/LM3445.pdf; ComponentLink3Description: LM3445 Web Page; ComponentLink3URL: http://www.national.com/pf/LM/LM3445.html; ComponentLink4Description: M14A Package Page; ComponentLink4URL: http://www.national.com/packaging/folders/m14a.html
footprint M14A_N (SOIC, 14-Leads, Body 8.6x3.9mm, Pitch 1.27mm, IPC Medium Density)
footprint M14A_L (SOIC, 14-Leads, Body 8.6x3.9mm, Pitch 1.27mm, IPC High Density)
footprint M14A_M (SOIC, 14-Leads, Body 8.6x3.9mm, Pitch 1.27mm, IPC Low Density)
part A pins: 1 COFF (in), 3 FLTR2 (in), 4 GND (power), 7 ISNS (in), 8 GATE (out), 9 VCC (power), 10 BLDR (in), 12 ASNS (out), 13 FLTR1 (in), 14 DIM (io)
part B pins: 2 NC, 5 NC, 6 NC, 11 NC

## LM3450AMT/NOPB
designator U?
LED Drivers with Active Power Factor Correction and Phase Dimming Decoder, 16-pin TSSOP, Pb-Free, 92 Rail; PartNumber: LM3450AMT/NOPB; Manufacturer: National Semiconductor; PackageTopMarking: NSUZXYTT*LM3450*AMT; PowerWise: N; CompType: MiscPower; High-Reliability: Y; DatasheetVersion: Jun-2011; PackageVersion: revD, Jun-2003; PackageReference: MTC16; PackageDescription: Molded TSSOP, Jedec, 5 x 4.4 x 0.9mm Body, 16 Lead, 0.65mm Pitch; RoHS: Y; PinCount: 16; Code_JEDEC: MO-153-AB; ComponentLink1Description: Manufacturer URL; ComponentLink1URL: http://www.national.com/; ComponentLink2Description: LM3450 Datasheet; ComponentLink2URL: http://www.national.com/ds/LM/LM3450.pdf; ComponentLink3Description: LM3450 Web Page; ComponentLink3URL: http://www.national.com/pf/LM/LM3450.html; ComponentLink4Description: MTC16 Package Page; ComponentLink4URL: http://www.national.com/packaging/folders/mtc16.html
footprint MTC16_N (TSOP, 16-Leads, Body 5x4.4mm, Pitch 0.65mm, IPC Medium Density)
footprint MTC16_L (TSOP, 16-Leads, Body 5x4.4mm, Pitch 0.65mm, IPC High Density)
footprint MTC16_M (TSOP, 16-Leads, Body 5x4.4mm, Pitch 0.65mm, IPC Low Density)
pins: 1 VREF (out), 2 VADJ (in), 3 FLT2 (in), 4 FLT1 (out), 5 DIM (oc), 6 VAC (in), 7 COMP, 8 FB (in), 9 ISEN (in), 10 GND (power), 11 CS (in), 12 GATE (out), 13 VCC (power), 14 ZCD (in), 15 HOLD (in), 16 BIAS (out)